# Altium footprint library CrystalOscillator_FOXSDLF080-20.PcbLib: 1 footprints
Each footprint in its own frame and in the unit in brackets; x right, y up, seen from the top. Pads: shape width x height; smd on the part's side, far side on the other; paste and mask are expansions set on the pad; w line width, h text height; cw(c..) or ccw(c..) is an arc to the next point about the centre after c.
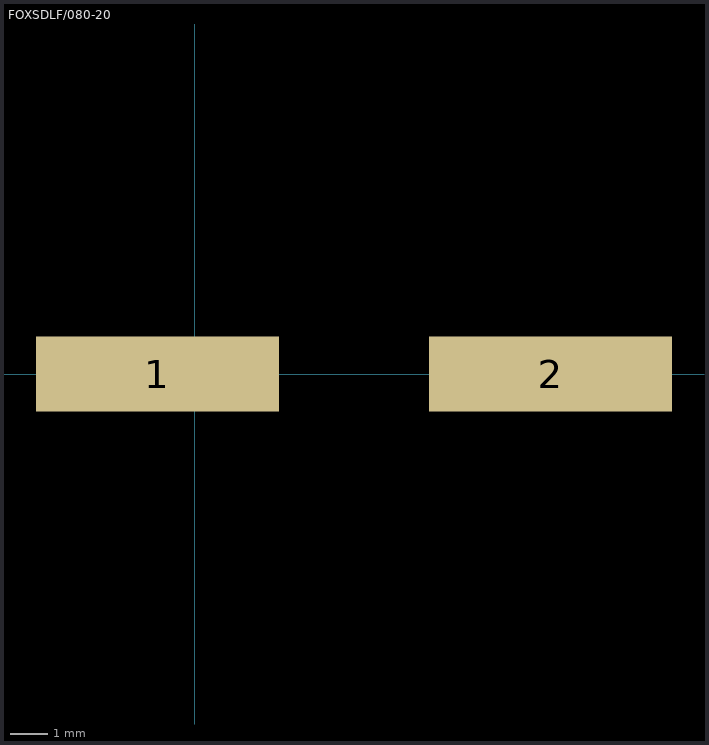
[diagram p0: the footprint, top view; thin cyan lines are the x and y axes]

## FOXSDLF/080-20 [mm] "Crystal Oscilator 8MHz"
pads (2):
  rect 6.5x2 smd: 1(-1,0) 2(9.5,0)
3D body "crystal-smd.STEP": height 4.3, standoff 0, extent -2.432,-2.5 11.068,2.5